# EAGLE library part PC104_CONNECTOR (library PwrGenBrd_v4.2)
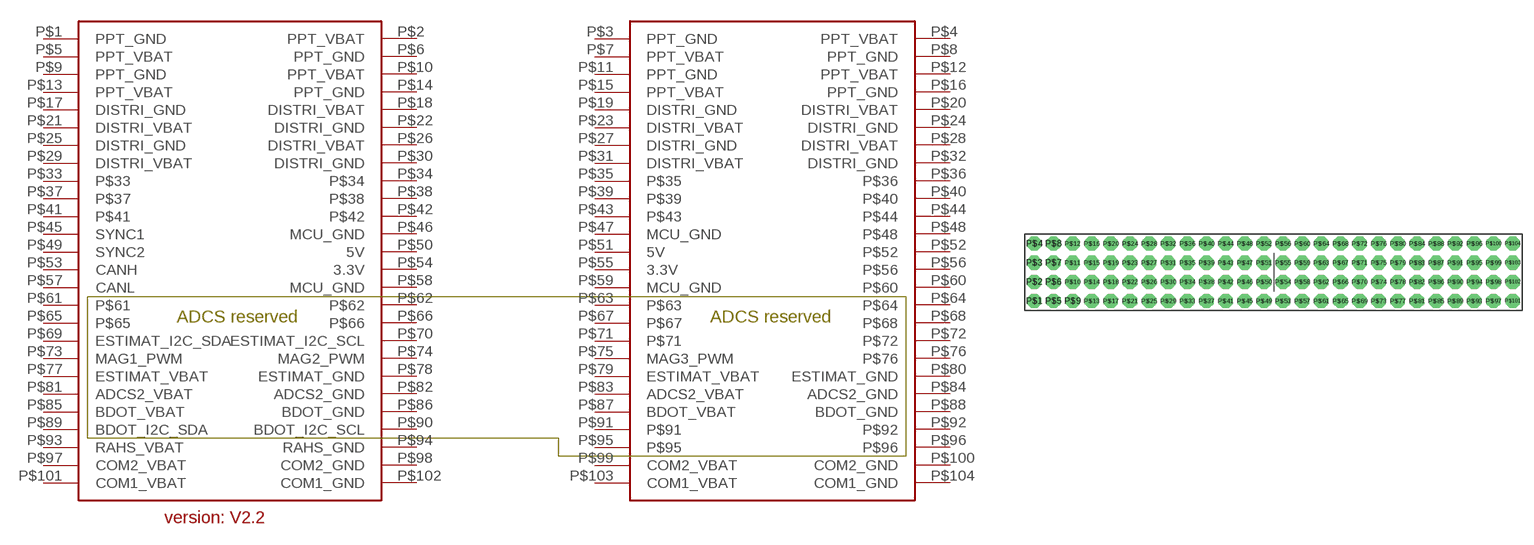
[diagram p1: symbol with the pads of PC104_CONNECTOR; footprint PC104_CONNECTOR]

Designator prefix -

## PC104_CONNECTOR  [PC104_CONNECTOR]
P$1  PPT_GND
P$2  PPT_VBAT
P$3  PPT_GND
P$4  PPT_VBAT
P$5  PPT_VBAT
P$6  PPT_GND
P$7  PPT_VBAT
P$8  PPT_GND
P$9  PPT_GND
P$10  PPT_VBAT
P$11  PPT_GND
P$12  PPT_VBAT
P$13  PPT_VBAT
P$14  PPT_GND
P$15  PPT_VBAT
P$16  PPT_GND
P$17  DISTRI_GND
P$18  DISTRI_VBAT
P$19  DISTRI_GND
P$20  DISTRI_VBAT
P$21  DISTRI_VBAT
P$22  DISTRI_GND
P$23  DISTRI_VBAT
P$24  DISTRI_GND
P$25  DISTRI_GND
P$26  DISTRI_VBAT
P$27  DISTRI_GND
P$28  DISTRI_VBAT
P$29  DISTRI_VBAT
P$30  DISTRI_GND
P$31  DISTRI_VBAT
P$32  DISTRI_GND
P$33  P$33
P$34  P$34
P$35  P$35
P$36  P$36
P$37  P$37
P$38  P$38
P$39  P$39
P$40  P$40
P$41  P$41
P$42  P$42
P$43  P$43
P$44  P$44
P$45  SYNC1
P$46  MCU_GND
P$47  MCU_GND
P$48  P$48
P$49  SYNC2
P$50  5V
P$51  5V
P$52  P$52
P$53  CANH
P$54  3.3V
P$55  3.3V
P$56  P$56
P$57  CANL
P$58  MCU_GND
P$59  MCU_GND
P$60  P$60
P$61  P$61
P$62  P$62
P$63  P$63
P$64  P$64
P$65  P$65
P$66  P$66
P$67  P$67
P$68  P$68
P$69  ESTIMAT_I2C_SDA
P$70  ESTIMAT_I2C_SCL
P$71  P$71
P$72  P$72
P$73  MAG1_PWM
P$74  MAG2_PWM
P$75  MAG3_PWM
P$76  P$76
P$77  ESTIMAT_VBAT
P$78  ESTIMAT_GND
P$79  ESTIMAT_VBAT
P$80  ESTIMAT_GND
P$81  ADCS2_VBAT
P$82  ADCS2_GND
P$83  ADCS2_VBAT
P$84  ADCS2_GND
P$85  BDOT_VBAT
P$86  BDOT_GND
P$87  BDOT_VBAT
P$88  BDOT_GND
P$89  BDOT_I2C_SDA
P$90  BDOT_I2C_SCL
P$91  P$91
P$92  P$92
P$93  RAHS_VBAT
P$94  RAHS_GND
P$95  P$95
P$96  P$96
P$97  COM2_VBAT
P$98  COM2_GND
P$99  COM2_VBAT
P$100  COM2_GND
P$101  COM1_VBAT
P$102  COM1_GND
P$103  COM1_VBAT
P$104  COM1_GND

## Footprint PC104_CONNECTOR (pad centres in mm)
drill 0.953 pad 1.88 octagon: P$1 -31.75,31.88; P$2 -31.75,34.42; P$3 -31.75,36.96; P$4 -31.75,39.5; P$5 -29.21,31.88; P$6 -29.21,34.42; P$7 -29.21,36.96; P$8 -29.21,39.5; P$9 -26.67,31.88; P$10 -26.67,34.42; P$11 -26.67,36.96; P$12 -26.67,39.5; P$13 -24.13,31.88; P$14 -24.13,34.42; P$15 -24.13,36.96; P$16 -24.13,39.5; P$17 -21.59,31.88; P$18 -21.59,34.42; P$19 -21.59,36.96; P$20 -21.59,39.5; P$21 -19.05,31.88; P$22 -19.05,34.42; P$23 -19.05,36.96; P$24 -19.05,39.5; P$25 -16.51,31.88; P$26 -16.51,34.42; P$27 -16.51,36.96; P$28 -16.51,39.5; P$29 -13.97,31.88; P$30 -13.97,34.42; P$31 -13.97,36.96; P$32 -13.97,39.5; P$33 -11.43,31.88; P$34 -11.43,34.42; P$35 -11.43,36.96; P$36 -11.43,39.5; P$37 -8.89,31.88; P$38 -8.89,34.42; P$39 -8.89,36.96; P$40 -8.89,39.5; P$41 -6.35,31.88; P$42 -6.35,34.42; P$43 -6.35,36.96; P$44 -6.35,39.5; P$45 -3.81,31.88; P$46 -3.81,34.42; P$47 -3.81,36.96; P$48 -3.81,39.5; P$49 -1.27,31.88; P$50 -1.27,34.42; P$51 -1.27,36.96; P$52 -1.27,39.5; P$53 1.27,31.88; P$54 1.27,34.42; P$55 1.27,36.96; P$56 1.27,39.5; P$57 3.81,31.88; P$58 3.81,34.42; P$59 3.81,36.96; P$60 3.81,39.5; P$61 6.35,31.88; P$62 6.35,34.42; P$63 6.35,36.96; P$64 6.35,39.5; P$65 8.89,31.88; P$66 8.89,34.42; P$67 8.89,36.96; P$68 8.89,39.5; P$69 11.43,31.88; P$70 11.43,34.42; P$71 11.43,36.96; P$72 11.43,39.5; P$73 13.97,31.88; P$74 13.97,34.42; P$75 13.97,36.96; P$76 13.97,39.5; P$77 16.51,31.88; P$78 16.51,34.42; P$79 16.51,36.96; P$80 16.51,39.5; P$81 19.05,31.88; P$82 19.05,34.42; P$83 19.05,36.96; P$84 19.05,39.5; P$85 21.59,31.88; P$86 21.59,34.42; P$87 21.59,36.96; P$88 21.59,39.5; P$89 24.13,31.88; P$90 24.13,34.42; P$91 24.13,36.96; P$92 24.13,39.5; P$93 26.67,31.88; P$94 26.67,34.42; P$95 26.67,36.96; P$96 26.67,39.5; P$97 29.21,31.88; P$98 29.21,34.42; P$99 29.21,36.96; P$100 29.21,39.5; P$101 31.75,31.88; P$102 31.75,34.42; P$103 31.75,36.96; P$104 31.75,39.5